# Altium schematic symbol library Crystal.SchLib: 2 symbols
Pins are listed as number, name and electrical type; pins without a type are passive.

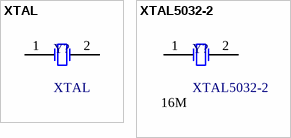
[diagram p0: symbols XTAL to XTAL5032-2]

## XTAL
designator Y?
Crystal Oscillator
footprint 49S
pins: 1 OSC1, 2 OSC2

## XTAL5032-2
designator Y?  value 16M
Crystal Oscillator
footprint X5032-2
pins: 1 OSC1, 2 OSC2